# Altium schematic symbol library FF_component_lib.SchLib: 148 symbols (part 2 of 2)
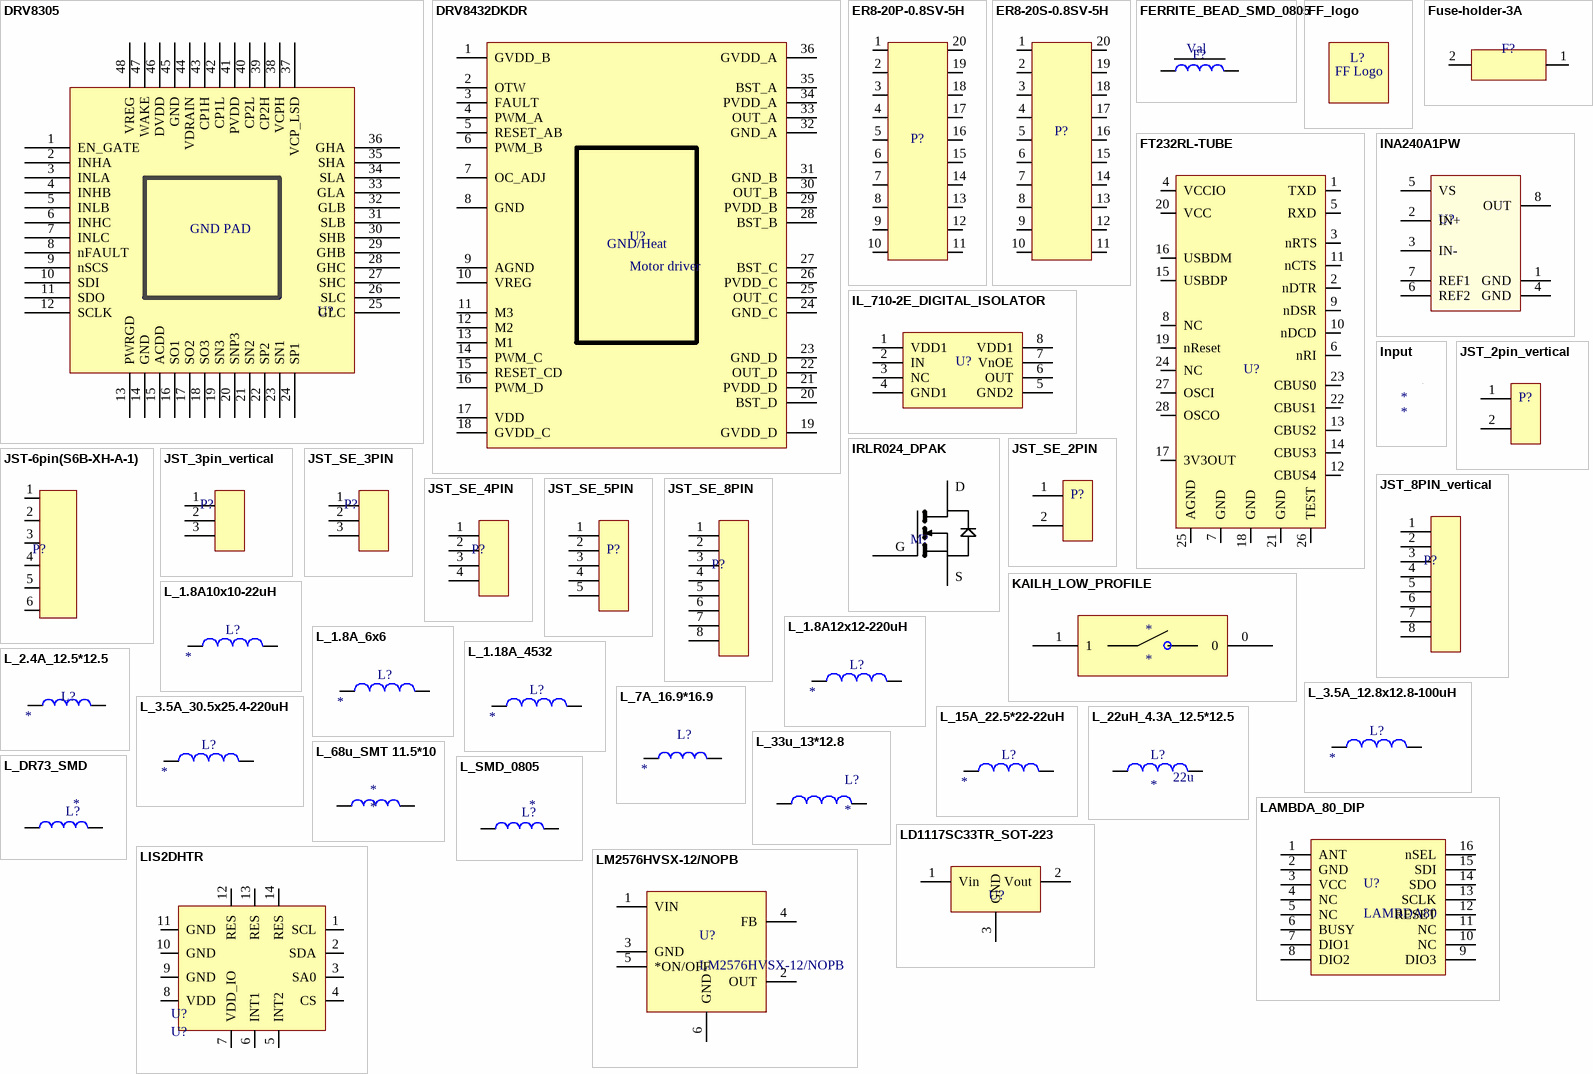
[diagram p5: symbols DRV8305 to LM2576HVSX-12/NOPB]

## LM2576HVSX-12/NOPB
designator U?
Conv DC-DC Single Inv/Step Down 4V to 60V 6-Pin(5+Tab) TO-263 T/R; Manufacturer 1: TI National Semiconductor; Efficiency: 88%; Number of Outputs: 1; Output Voltage: 12V; Max Output Current: 3A; Switching Frequency: 58kHz; Nominal Supply Current: 5mA; Min Supply Voltage: 7V; Synchronous Rectifier: No; Output Type: Fixed; Supplier 1: Digi-Key; Supplier Part Number 1: 296-35394-1-ND; Manufacturer Part Number 1: LM2576HVSX-12/NOPB; Stock 1: 1790; Pricing 1: 1=6,28000, 10=5,63800, 25=5,33040, 100=4,38270, 250=3,93256 (USD); RoHS: Yes; Mount: Surface Mount; Case/Package: TO-263; Min Operating Temperature: -40°C; Max Operating Temperature: 125°C; Packaging: Tape and Reel; Min Input Voltage: 4V; Max Input Voltage: 60V; Output Current: 3A; Package Quantity: 500; Quiescent Current: 5mA; Operating Supply Voltage: 60V; Radiation Hardening: No; Lead Free: Contains Lead; ComponentLink1URL: https://datasheet.ciiva.com/15112/getdatasheetpartid-55582-15112654.pdf?src-supplier=Verical; ComponentLink1Description: https://datasheet.ciiva.com/15112/getdatasheetpartid-55582-15112654.pdf?src-supplier=Verical; ComponentLink2URL: https://datasheet.ciiva.com/41457/001013732-da-01-en-ic-reg-b-lm2576hvsx-12-nopb-to-263-5-tid-41457603.pdf?src-supplier=Conrad; ComponentLink2Description: https://datasheet.ciiva.com/41457/001013732-da-01-en-ic-reg-b-lm2576hvsx-12-nopb-to-263-5-tid-41457603.pdf?src-supplier=Conrad; ComponentLink3URL: https://datasheet.ciiva.com/6607/lm2576hv-6607077.pdf?src-supplier=Digi-Key; ComponentLink3Description: https://datasheet.ciiva.com/6607/lm2576hv-6607077.pdf?src-supplier=Digi-Key; ComponentLink4URL: https://datasheet.ciiva.com/6607/lm2576hv-6607079.pdf?src-supplier=Digi-Key; ComponentLink4Description: https://datasheet.ciiva.com/6607/lm2576hv-6607079.pdf?src-supplier=Digi-Key; Category: Integrated Circuits (ICs)
footprint LM2576HVSX-12/NOPB
pins: 1 VIN, 2 OUT, 3 GND, 4 FB, 5 *ON/OFF, 6 GND

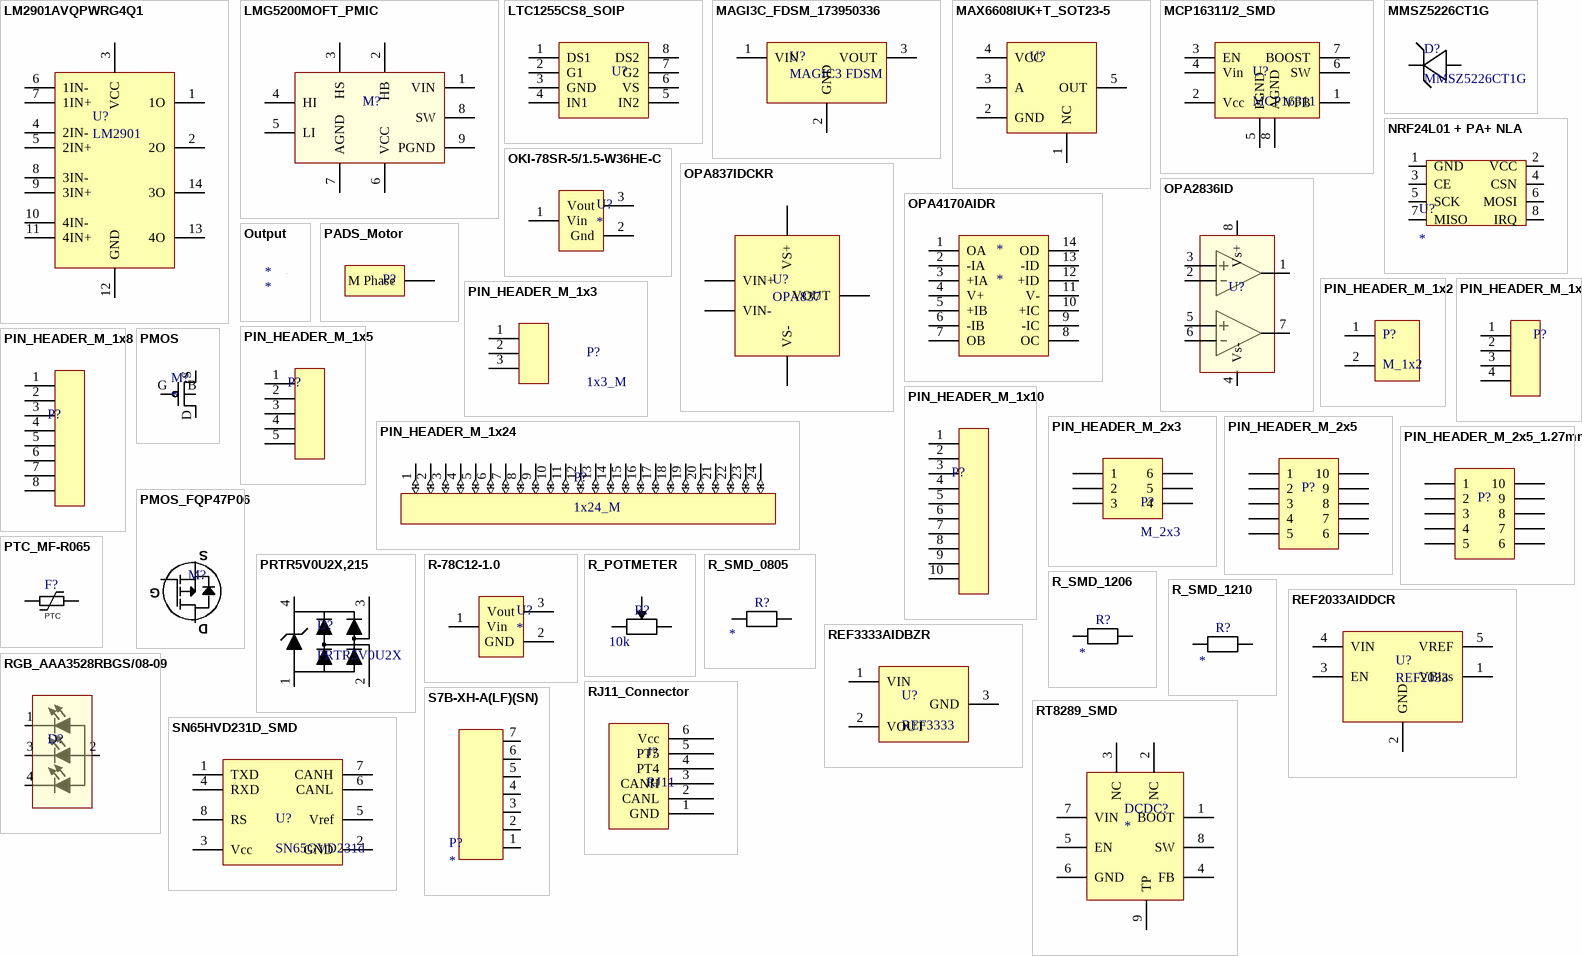
[diagram p3: symbols LM2901AVQPWRG4Q1 to SN65HVD231D_SMD]

## LM2901AVQPWRG4Q1
designator U?, comment LM2901
Supplier Link 1: https://www.digikey.com/product-detail/en/texas-instruments/LM2901AVQPWRG4Q1/296-23883-1-ND/1966623; Supplier Part Number 1: 296-23883-1-ND
footprint LM2901_14-TSSOP
pins: 1 1O, 2 2O, 3 VCC, 4 2IN-, 5 2IN+, 6 1IN-, 7 1IN+, 8 3IN-, 9 3IN+, 10 4IN-, 11 4IN+, 12 GND, 13 4O, 14 3O

## LMG5200MOFT_PMIC
designator M?  (value not drawn)
Supplier Part Number 1: 296-45474-1-ND; Supplier Link 1: https://www.digikey.com/product-detail/en/texas-instruments/LMG5200MOFT/296-45474-1-ND/6820978
footprint LMG5200MOFT
pins: 1 VIN, 2 HB, 3 HS, 4 HI, 5 LI, 6 VCC, 7 AGND, 8 SW, 9 PGND

## LTC1255CS8_SOIP
designator U?  (value not drawn)
IC GATE DRIVER HIGH SIDE 8SOIC; Supplier Link 1: https://www.digikey.com/product-detail/en/linear-technology-analog-devices/LTC1255CS8-TRPBF/LTC1255CS8-TRPBFCT-ND/8826860; Supplier Part Number 1: LTC1255CS8#TRPBFCT-ND
footprint LTC1255CS8_8SOIP (8-SOIP)
pins: 1 DS1, 2 G1, 3 GND, 4 IN1, 5 IN2, 6 VS, 7 G2, 8 DS2

## MAGI3C_FDSM_173950336
designator U?, comment MAGIC3 FDSM
3.3V step down, 4.75-36V input; Supplier Link 1: https://www.we-online.com/catalog/en/MAGIC_FDSM_FIXED_OUTPUT_VOLTAGE/; Supplier Part Number 1: 1739050336
footprint MAGI3C_FDSM
pins: 1 VIN, 2 GND, 3 VOUT

## MAX6608IUK+T_SOT23-5
designator U?  (value not drawn)
Supplier Link 1: https://www.digikey.com/product-detail/en/maxim-integrated/MAX6608IUK-T/MAX6608IUK-CT-ND/5405845; Supplier Part Number 1: MAX6608IUK+CT-ND
footprint MAX6608IUK+T_SOT23-5
pins: 1 NC, 2 GND, 3 A, 4 VCC, 5 OUT

## MCP16311/2_SMD
designator U?, comment MCP16311
Supplier Link 1: https://www.digikey.com/product-detail/en/microchip-technology/MCP16311T-E-MS/MCP16311T-E-MSCT-ND/7065569; Supplier Part Number 1: MCP16311T-E/MSCT-ND
footprint MCP16311/2_MSOP
pins: 1 VFB, 2 Vcc, 3 EN, 4 Vin, 5 PGND, 6 SW, 7 BOOST, 8 AGND

## MMSZ5226CT1G
designator D?
Diode Zener Single 3.3V 5% 500mW 2-Pin SOD-123 T/R; Manufacturer 1: ON Semiconductor; Tolerance: 2%; Impedance: 28R; Max Reverse Leakage Current: 25uA; Zener Current: 20mA; Supplier 1: Digi-Key; Manufacturer Part Number 1: MMSZ5226CT1G; Stock 1: 15207; Pricing 1: 1=0.21000, 10=0.19000, 25=0.18120, 100=0.07980, 500=0.06264, 1000=0.04350 (USD); RoHS: Yes; Case/Package: SOD-123-2; Number of Pins: 2; Min Operating Temperature: -55°C; Max Operating Temperature: 150°C; Max Power Dissipation: 500mW; Package Quantity: 3000; Packaging: Tape and Reel; Zener Voltage: 3.3V; Voltage Tolerance: 2%; Power Dissipation: 500mW; Element Configuration: Single; Radiation Hardening: No; Lead Free: Lead Free; ComponentLink1URL: https://datasheet.ciiva.com/13080/mmsz5221bt1-d-13080809.pdf?src-supplier=Mouser; ComponentLink1Description: https://datasheet.ciiva.com/13080/mmsz5221bt1-d-13080809.pdf?src-supplier=Mouser; Supplier Part Number 1: MMSZ5226CT1GOSCT-ND
footprint MMSZ5226CT1G
pins: A, K

## NRF24L01 + PA+ NLA
designator U?
footprint NRF24L01 + PA + NLA
pins: 1 GND, 2 VCC, 3 CE, 4 CSN, 5 SCK, 6 MOSI, 7 MISO, 8 IRQ

## OKI-78SR-5/1.5-W36HE-C
designator U?
12V-5V buck; Value: *; Supplier Link 1: https://www.digikey.com/product-detail/en/murata-power-solutions-inc/OKI-78SR-5-1.5-W36HE-C/811-3289-ND/6817694; Supplier Part Number 1: 811-3289-ND
footprint OKI-78SR-5/1.5-W36HE-C
pins: 1 Vin, 2 Gnd, 3 Vout

## OPA837IDCKR
designator U?, comment OPA837
Supplier Part Number 1: 296-50381-1-ND; Supplier Link 1: https://www.digikey.com/product-detail/en/texas-instruments/OPA837IDCKR/296-50381-1-ND/9685520
footprint SC70-5 (SC70-5pin)
pins: 1 VOUT, 2 VS-, 3 VIN+, 4 VIN-, 5 VS+

## OPA2836ID
designator U?  (value not drawn)
Operational Amplifier, 2 Amplifier, 118 MHz, 580 V/s, 2.5V to 5.5V, SOIC, 8 Pins; Manufacturer 1: Texas Instruments; -3db Bandwidth: 205MHz; Slew Rate: 560V/µs; Output Current per Channel: 50mA; Min Dual Supply Voltage: 1.25V; Max Dual Supply Voltage: 2.75V; Unity Gain Bandwidth Product: 118MHz; Common Mode Rejection Ratio: 94dB; Voltage Gain: 122dB; Number of Channels: 2; Max I/O Voltage: 400uV; Input Offset Voltage (Vos): 65uV; Input Bias Current: 1uA; Operating Supply Current: 1mA; Settling Time: 30ns; Max Frequency: 1MHz; Supplier 1: Digi-Key; Manufacturer Part Number 1: OPA2836ID; Stock 1: 450; Pricing 1: 1=4.20000, 10=3.77000, 25=3.56400, 100=2.93040, 250=2.62944, 500=2.53440, 1000=2.10672 (USD); RoHS: Yes; Case/Package: D; Number of Pins: 8; Contact Plating: Gold; Min Operating Temperature: -40°C; Max Operating Temperature: 125°C; Packaging: Rail/Tube; Package Quantity: 75; Max Supply Voltage: 5.5V; Min Supply Voltage: 2.5V; Gain Bandwidth Product: 118MHz; Number of Circuits: 2; Number of Elements: 2; Power Supply Rejection Ratio (PSRR): 94dB; Bandwidth: 118MHz; Number of Amplifiers: 2; Length: 5mm; Height: 1.5mm; Width: 4mm; Radiation Hardening: No; Lead Free: Lead Free; REACH SVHC: No SVHC; ComponentLink1URL: https://datasheet.ciiva.com/1799/opa2836-1799979.pdf?src-supplier=Digi-Key; ComponentLink1Description: https://datasheet.ciiva.com/1799/opa2836-1799979.pdf?src-supplier=Digi-Key; Supplier Part Number 1: 296-29793-5-ND
footprint opa2836
pins: 1 Out1, 2 In1-, 3 In1+, 4 Vs-, 5 In2+, 6 In2-, 7 Out2, 8 Vs+

## OPA4170AIDR
designator *
Supplier Link 1: https://www.digikey.com/product-detail/en/texas-instruments/OPA4170AIDR/296-29664-1-ND/2762167; Supplier Part Number 1: 296-29664-1-ND
footprint SOIC-14pin
pins: 1 OA, 2 -IA, 3 +IA, 4 V+, 5 +IB, 6 -IB, 7 OB, 8 OC, 9 -IC, 10 +IC, 11 V-, 12 +ID, 13 -ID, 14 OD

## Output
designator *
Value: *
pins: 6 (out)

## PADS_Motor
designator P?, comment M. Pad  (value not drawn)
Pads for 3 phase motor (its not a phase mom!!!)
footprint PADS_Motor
pins: 1 M Phase

## PIN_HEADER_M_1x2
designator P?, comment M_1x2
Supplier 1: *; Supplier Part Number 1: *
footprint PIN_HEADER_M_1x2
pins: 1, 2

## PIN_HEADER_M_1x3
designator P?, comment 1x3_M
Supplier 1: *; Supplier Part Number 1: *
footprint PIN_HEADER_M_1x3
pins: 1, 2, 3

## PIN_HEADER_M_1x4
designator P?, comment 1x4_M  (value not drawn)
Supplier 1: *; Supplier Part Number 1: *
footprint PIN_HEADER_M_1x4
pins: 1, 2, 3, 4

## PIN_HEADER_M_1x5
designator P?, comment 1x5_M  (value not drawn)
Supplier Part Number 1: *; Supplier 1: *
footprint PIN_HEADER_M_1x5
pins: 1, 2, 3, 4, 5

## PIN_HEADER_M_1x8
designator P?, comment M_1x10  (value not drawn)
Supplier 1: *; Supplier Part Number 1: *; Category: Pin Header
footprint PIN_HEADER_M_1X8
pins: 1, 2, 3, 4, 5, 6, 7, 8

## PIN_HEADER_M_1x10
designator P?, comment M_1x10  (value not drawn)
Supplier 1: *; Supplier Part Number 1: *
footprint PIN_HEADER_M_1x10
pins: 1, 2, 3, 4, 5, 6, 7, 8, 9, 10

## PIN_HEADER_M_1x24
designator P?, comment 1x24_M
Supplier Part Number 1: *; Supplier 1: *
footprint PIN_HEADER_M_1x24
pins: 1 (io), 2 (io), 3 (io), 4 (io), 5 (io), 6 (io), 7 (io), 8 (io), 9 (io), 10 (io), 11 (io), 12 (io), 13 (io), 14 (io), 15 (io), 16 (io), 17 (io), 18 (io), 19 (io), 20 (io), 21 (io), 22 (io), 23 (io), 24 (io)

## PIN_HEADER_M_2x3
designator P?, comment M_2x3
Supplier 1: *; Supplier Part Number 1: *
footprint PIN_HEADER_M_2x3
pins: 1, 2, 3, 4, 5, 6

## PIN_HEADER_M_2x5
designator P?, comment M_2x5  (value not drawn)
Supplier 1: *; Supplier Part Number 1: *
footprint PIN_HEADER_M_2x5
pins: 1, 2, 3, 4, 5, 6, 7, 8, 9, 10

## PIN_HEADER_M_2x5_1.27mm
designator P?, comment M_2x5  (value not drawn)
Supplier 1: *; Supplier Part Number 1: *
footprint PIN_HEADER_M 2x5 1.27mm
pins: 1, 2, 3, 4, 5, 6, 7, 8, 9, 10

## PMOS
designator M?
pins: B S, D 2, G 0, S 1

## PMOS_FQP47P06
designator M?, comment FQP47P06  (value not drawn)
MOSFET P-CH 60V 47A TO-220; Manufacturer 1: ON Semiconductor / Fairchild; Fall Time: 195ns; Drain to Source Resistance: 26mR; Power Dissipation: 160W; Turn-Off Delay Time: 100ns; Turn-On Delay Time: 50ns; Threshold Voltage: -4V; Rise Time: 450ns; Input Capacitance: 3.6nF; Number of Elements: 1; Element Configuration: Single; Drain to Source Breakdown Voltage: -60V; Gate to Source Voltage (Vgs): 25V; Current Rating: -47A; Supplier 1: Digi-Key; Manufacturer Part Number 1: FQP47P06; Stock 1: 1452; Pricing 1: 1=2.39000, 10=2.14600, 25=2.02440, 100=1.57890, 500=1.33600, 1000=1.13358, 2500=1.11739, 5000=1.09310 (USD); RoHS: Yes; Mount: Through Hole; Case/Package: TO-220AB; Number of Pins: 3; Weight: 1.8g; Min Operating Temperature: -55°C; Max Operating Temperature: 175°C; Continuous Drain Current (ID): 47A; Drain to Source Voltage (Vdss): 60V; Packaging: Rail/Tube; Max Power Dissipation: 160W; Nominal Vgs: -4V; Package Quantity: 50; Rds On Max: 26mR; On-State Resistance: 26mR; Voltage Rating (DC): -60V; Length: 10.1mm; Height: 9.4mm; Width: 4.7mm; Radiation Hardening: No; REACH SVHC: No SVHC; Lead Free: Lead Free; ComponentLink1URL: https://datasheet.ciiva.com/4442/fqp47p06-111828-4442634.pdf?src-supplier=Mouser; ComponentLink1Description: https://datasheet.ciiva.com/4442/fqp47p06-111828-4442634.pdf?src-supplier=Mouser; ComponentLink2URL: https://datasheet.ciiva.com/15137/getdatasheetpartid-70137-15137339.pdf?src-supplier=Verical; ComponentLink2Description: https://datasheet.ciiva.com/15137/getdatasheetpartid-70137-15137339.pdf?src-supplier=Verical; ComponentLink3URL: https://datasheet.ciiva.com/27051/929071-27051015.pdf?src-supplier=Jameco; ComponentLink3Description: https://datasheet.ciiva.com/27051/929071-27051015.pdf?src-supplier=Jameco; ComponentLink4URL: https://datasheet.ciiva.com/22681/1725683-22681909.pdf?src-supplier=Element14; ComponentLink4Description: https://datasheet.ciiva.com/22681/1725683-22681909.pdf?src-supplier=Element14; ComponentLink5URL: https://datasheet.ciiva.com/48715/001264209-da-01-en-mosfet-p-ch-60v-47-fqp47p06-to-220-3-fsc-48715589.pdf?src-supplier=Conrad; ComponentLink5Description: https://datasheet.ciiva.com/48715/001264209-da-01-en-mosfet-p-ch-60v-47-fqp47p06-to-220-3-fsc-48715589.pdf?src-supplier=Conrad; Supplier Part Number 1: FQP47P06-ND
footprint PMOS_FQP47P06
pins: 1 G, 2 D, 3 S

## PRTR5V0U2X,215
designator D?, comment PRTR5V0U2X
ESD Suppressor Diode Array Uni-Dir 5.5V Automotive 4-Pin SOT-143B T/R; Manufacturer 1: Nexperia; Manufacturer Part Number 1: PRTR5V0U2X,215; Supplier 1: Digi-Key; Stock 1: 125270; Pricing 1: 1=0.51000, 10=0.40500, 25=0.34760, 100=0.31850, 500=0.22002, 1000=0.16791 (USD); RoHS: No; ComponentLink1URL: http://www.farnell.com/datasheets/109718.pdf?src-supplier=Farnell; ComponentLink1Description: http://www.farnell.com/datasheets/109718.pdf?src-supplier=Farnell; ComponentLink2URL: http://www.farnell.com/datasheets/109718.pdf?src-supplier=Newark; ComponentLink2Description: http://www.farnell.com/datasheets/109718.pdf?src-supplier=Newark; ComponentLink3URL: https://assets.nexperia.com/documents/data-sheet/PRTR5V0U2X.pdf?src-supplier=Digi-Key; ComponentLink3Description: https://assets.nexperia.com/documents/data-sheet/PRTR5V0U2X.pdf?src-supplier=Digi-Key; Supplier Part Number 1: 1727-3884-1-ND
footprint PRTR5V0U2X
pins: 1, 2, 3, 4

## PTC_MF-R065
designator F?, comment MF-R065  (value not drawn)
FUSE PTC RESETTABLE .65A HOLD; Manufacturer 1: Bourns; Body Material: Polymer; Trip Current: 1.3A; Time to Trip: 5.3s; Power Dissipation: 900mW; Max Current Rating: 40A; Operating Supply Voltage: 60V; Resistance: 480mR; Hold Current: 650mA; Lead Diameter: 0.51mm; Lead Length: 7.6mm; Approvals: UL,CSA,TUV; Supplier 1: Digi-Key; Manufacturer Part Number 1: MF-R065; Stock 1: 6343; Pricing 1: 1=0.35000, 5=0.34200, 10=0.33200, 50=0.27920, 100=0.23180, 250=0.21076, 500=0.17912, 1000=0.15806, 5000=0.14225 (USD); RoHS: Yes; Mount: Through Hole,PCB; Case/Package: Radial; Number of Terminals: 2; Contact Plating: Tin; Min Operating Temperature: -40°C; Max Operating Temperature: 85°C; Termination: Radial; Packaging: Bulk; Package Quantity: 500; Current Rating: 40A; Voltage Rating: 60V; Voltage Rating (DC): 60V; Diameter: 9.7mm; Height: 15.2mm; Lead Pitch: 5.1mm; Terminal Pitch: 5.1mm; Wire/Cable Diameter: 0.51mm; Radiation Hardening: No; REACH SVHC: No SVHC; Flammability Rating: UL94 V-0; Lead Free: Lead Free; ComponentLink1URL: https://datasheet.ciiva.com/29121/551252-da-01-en-multifuse-sicherung-mf-r-29121073.pdf?src-supplier=Conrad; ComponentLink1Description: https://datasheet.ciiva.com/29121/551252-da-01-en-multifuse-sicherung-mf-r-29121073.pdf?src-supplier=Conrad; ComponentLink2URL: https://datasheet.ciiva.com/4502/mfr-72330-4502952.pdf?src-supplier=Mouser; ComponentLink2Description: https://datasheet.ciiva.com/4502/mfr-72330-4502952.pdf?src-supplier=Mouser; ComponentLink3URL: https://datasheet.ciiva.com/30194/1551mfr-30194824.pdf?src-supplier=Onlinecomponents.com; ComponentLink3Description: https://datasheet.ciiva.com/30194/1551mfr-30194824.pdf?src-supplier=Onlinecomponents.com; ComponentLink4URL: https://datasheet.ciiva.com/326/mfr-326634.pdf?src-supplier=Digi-Key; ComponentLink4Description: https://datasheet.ciiva.com/326/mfr-326634.pdf?src-supplier=Digi-Key; ComponentLink5URL: https://datasheet.ciiva.com/14538/70153580-14538702.pdf?src-supplier=Allied+Electronics; ComponentLink5Description: https://datasheet.ciiva.com/14538/70153580-14538702.pdf?src-supplier=Allied+Electronics; ComponentLink6URL: https://datasheet.ciiva.com/3019/mfr-3019649.pdf?src-supplier=Avnet; ComponentLink6Description: https://datasheet.ciiva.com/3019/mfr-3019649.pdf?src-supplier=Avnet; ComponentLink7URL: https://datasheet.ciiva.com/1274/1864503-1274632.pdf?src-supplier=Element14; ComponentLink7Description: https://datasheet.ciiva.com/1274/1864503-1274632.pdf?src-supplier=Element14; ComponentLink8URL: https://datasheet.ciiva.com/17401/mfr-17401752.pdf?src-supplier=Avnet+Europe; ComponentLink8Description: https://datasheet.ciiva.com/17401/mfr-17401752.pdf?src-supplier=Avnet+Europe; ComponentLink9URL: https://datasheet.ciiva.com/1274/6455-1274633.pdf?src-supplier=Element14; ComponentLink9Description: https://datasheet.ciiva.com/1274/6455-1274633.pdf?src-supplier=Element14; Supplier Part Number 1: MF-R065-ND
footprint ptc
pins: 1, 2
text: PTC

## R-78C12-1.0
designator U?
Wide input - 12V out buck; Supplier Link 1: https://www.digikey.com/products/en?keywords=R-78C12-1.0; Supplier Part Number 1: 945-1392-5-ND
footprint R-78C12-1.0
pins: 1 Vin, 2 GND, 3 Vout

## R_POTMETER
designator R?  value 10k
10k 25 turn potmeter; Supplier 1: https://www.digikey.com/product-detail/en/bourns-inc/PV36W103C01B00/490-2875-ND/666502; Supplier Part Number 1: 490-2875-ND
footprint R_POTMETER
pins: 1, 2, 3

## R_SMD_0805
designator R?, comment SMD  (value not drawn)
Supplier 1: *; Supplier Part Number 1: *; Value: *
footprint R_SMD_0805_pcb
pins: 1, 2

## R_SMD_1206
designator R?
Supplier Link 1: *; Supplier Part Number 1: *; Value: *
footprint R_SMD_1206
pins: 1, 2

## R_SMD_1210
designator R?
Supplier Link 1: *; Value: *
footprint R_SMD_1210
pins: 1, 2

## REF2033AIDDCR
designator U?, comment REF2033
Voltage ref chip. SOT-23-5; Supplier Link 1: https://www.digikey.com/product-detail/en/texas-instruments/REF2033AIDDCR/296-46177-1-ND/7033352; Supplier Part Number 1: 296-46177-1-ND
footprint SOT-23-5 (0.95 pitch)
pins: 1 VBias, 2 GND, 3 EN, 4 VIN, 5 VREF

## REF3333AIDBZR
designator U?, comment REF3333
Supplier Part Number 1: 296-22645-1-ND; Supplier Link 1: https://www.digikey.com/product-detail/en/texas-instruments/REF3333AIDBZR/296-22645-1-ND/1681907
footprint REF3333AIDBZR
pins: 1 VIN, 2 VOUT, 3 GND

## RGB_AAA3528RBGS/08-09
designator D?, comment RGB led  (value not drawn)
Manufacturer 1: Kingbright; Manufacturer Part Number 1: AAA3528RBGS/08-09; Supplier 1: Digi-Key; Stock 1: 2950; Pricing 1: 1=1.35000, 10=1.09900, 100=0.67600, 500=0.57460, 1000=0.47320 (USD); Supplier Part Number 1: 754-AAA3528RBGS/08-09CT-ND
footprint RGB_LED
pins: 1 R, 2, 3 B, 4 G

## RJ11_Connector
designator J?, comment RJ11
Supplier Part Number 1: AE10383-ND; Supplier Link 1: https://www.digikey.no/product-detail/en/assmann-wsw-components/A-2004-1-4-LP-N-R/AE10383-ND/2183634
footprint RJ11_Connector
pins: 1 GND, 2 CANL, 3 CANH, 4 PT4, 5 PT5, 6 Vcc

## RT8289_SMD
designator DCDC?
DC to DC Vin 32Vmax Vout 26Vmax; ComponentLink1Description: Datasheet; ComponentLink1URL: https://www.richtek.com/assets/product_file/RT8289/DS8289-02.pdf; Supplier Part Number 1: 1028-1046-1-ND; Supplier Link 1: https://www.digikey.no/product-detail/en/richtek-usa-inc/RT8289GSP/1028-1046-1-ND/3072324
footprint RT8289
pins: 1 BOOT, 2 NC, 3 NC, 4 FB, 5 EN, 6 GND, 7 VIN, 8 SW, 9 TP

## S7B-XH-A(LF)(SN)
designator P?
CONN HEADER XH SIDE 7POS 2.5MM
footprint S7B-XH-A(LF)(SN)
pins: 1, 2, 3, 4, 5, 6, 7

## SN65HVD231D_SMD
designator U?, comment SN65GVD231d
Supplier Link 1: https://www.digikey.no/product-detail/en/texas-instruments/SN65HVD231D/296-12206-5-ND/413493; Supplier Part Number 1: 296-12206-5-ND
footprint SN65HVD231D_SMD
pins: 1 TXD, 2 GND, 3 Vcc, 4 RXD, 5 Vref, 6 CANL, 7 CANH, 8 RS

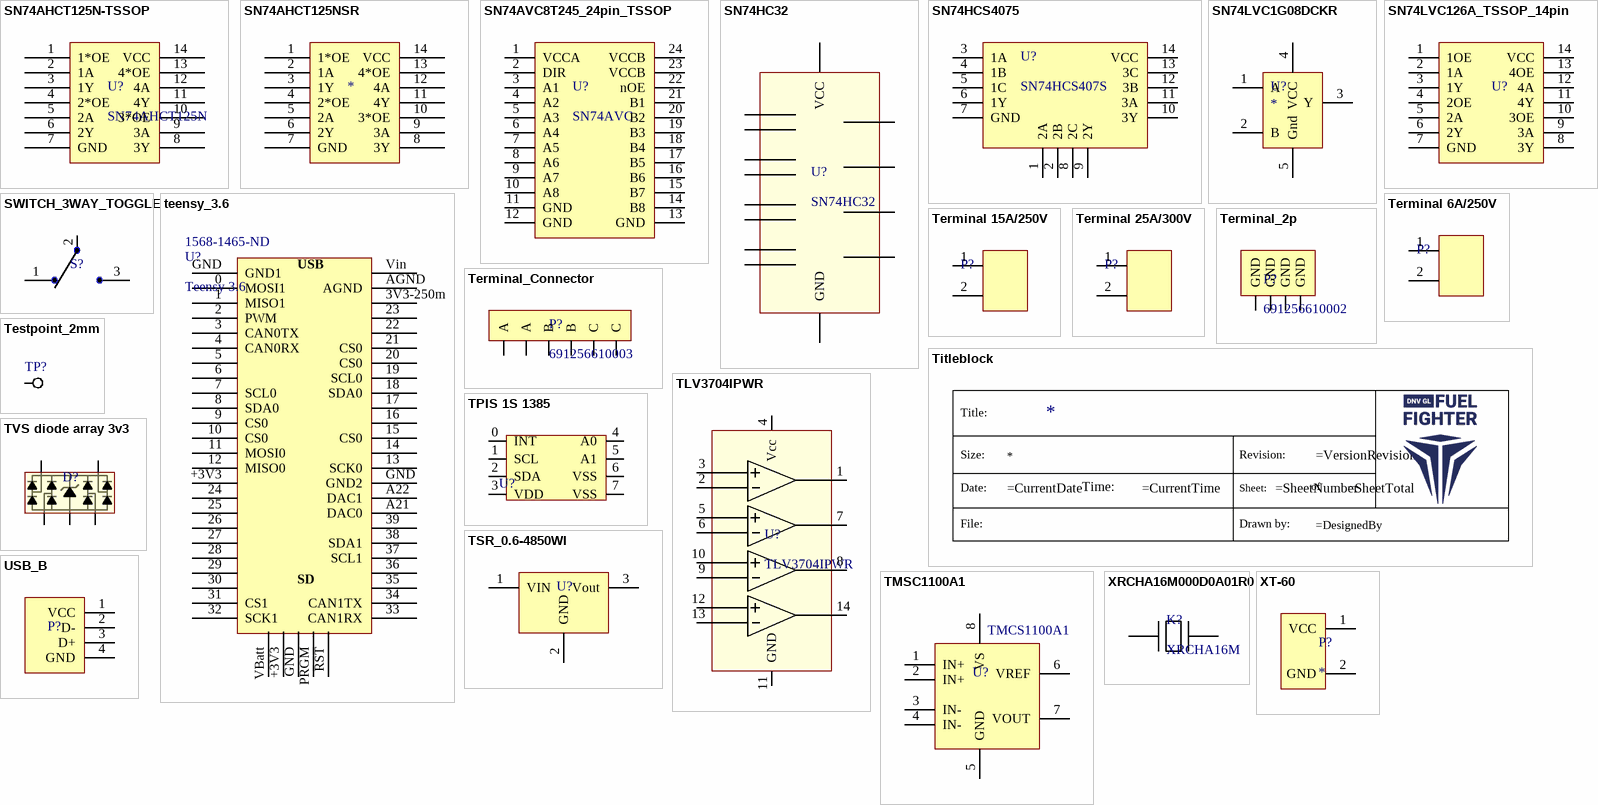
[diagram p4: symbols SN74AHCT125N-TSSOP to XT-60]

## SN74AHCT125N-TSSOP
designator U?, comment SN74AHCT125N
IC BUS BUFFER TRI-ST QD 14DIP; Manufacturer 1: Texas Instruments; Number of Channels: 4; Operating Supply Voltage: 5V; Propagation Delay: 7.5ns; Max Supply Voltage: 5.5V; Min Supply Voltage: 4.5V; Logic Function: Buffer,Inverting; Number of Bits per Element: 1; High Level Output Current: -8mA; Low Level Output Current: 8mA; Polarity: Non-Inverting; Turn-On Delay Time: 10ns; Quiescent Current: 2uA; Supplier 1: Digi-Key; Supplier Part Number 1: 296-4655-5-ND; Manufacturer Part Number 1: SN74AHCT125N; Stock 1: 4817; Pricing 1: 1=0,40000, 10=0,34500, 25=0,32200, 100=0,25760, 250=0,23920, 500=0,20240, 1000=0,15640, 2500=0,14260, 5000=0,13340 (USD); RoHS: Yes; Mount: Through Hole; Case/Package: PDIP; Number of Pins: 14; Min Operating Temperature: -40°C; Max Operating Temperature: 125°C; Number of Inputs: 4; Number of Outputs: 4; Packaging: Rail/Tube; Package Quantity: 25; Number of Elements: 4; Number of Input Lines: 4; Number of Output Lines: 4; Termination: Through Hole; Number of Circuits: 4; Number of Bits: 4; Radiation Hardening: No; REACH SVHC: No SVHC; Lead Free: Lead Free; ComponentLink1URL: https://datasheet.ciiva.com/41456/001016253-da-01-en-ic-bus-bufer-qd-sn74ahct125n-pdip-14-tid-41456644.pdf?src-supplier=Conrad; ComponentLink1Description: https://datasheet.ciiva.com/41456/001016253-da-01-en-ic-bus-bufer-qd-sn74ahct125n-pdip-14-tid-41456644.pdf?src-supplier=Conrad; ComponentLink2URL: https://datasheet.ciiva.com/1837/sn74ahct125-1837924.pdf?src-supplier=Digi-Key; ComponentLink2Description: https://datasheet.ciiva.com/1837/sn74ahct125-1837924.pdf?src-supplier=Digi-Key; ComponentLink3URL: https://datasheet.ciiva.com/14318/sn74ahct125-14318487.pdf?src-supplier=Avnet; ComponentLink3Description: https://datasheet.ciiva.com/14318/sn74ahct125-14318487.pdf?src-supplier=Avnet; ComponentLink4URL: https://datasheet.ciiva.com/26247/sn74ahct125-26247919.pdf?src-supplier=Avnet+Europe; ComponentLink4Description: https://datasheet.ciiva.com/26247/sn74ahct125-26247919.pdf?src-supplier=Avnet+Europe; Category: Integrated Circuits (ICs)
footprint SN74AHCT125N-DIP14
pins: 1 1*OE, 2 1A, 3 1Y, 4 2*OE, 5 2A, 6 2Y, 7 GND, 8 3Y, 9 3A, 10 3*OE, 11 4Y, 12 4A, 13 4*OE, 14 VCC

## SN74AHCT125NSR
designator *  (value not drawn)
Supplier 1: Digi-Key; Supplier Part Number 1: 296-31745-1-ND
footprint SN74AHCT125NSR
pins: 1 1*OE, 2 1A, 3 1Y, 4 2*OE, 5 2A, 6 2Y, 7 GND, 8 3Y, 9 3A, 10 3*OE, 11 4Y, 12 4A, 13 4*OE, 14 VCC

## SN74AVC8T245_24pin_TSSOP
designator U?, comment SN74AVC
Supplier Link 1: https://www.digikey.no/product-detail/en/texas-instruments/SN74AVC8T245PWR/296-19100-1-ND/864331; Supplier Part Number 1: 296-19100-1-ND
footprint SN74AVC8T245_TSOP (TSOP, 24-Leads, Body 7,80x4,40mm, Pitch 0,65mm, IPC Medium Density)
pins: 1 VCCA, 2 DIR, 3 A1, 4 A2, 5 A3, 6 A4, 7 A5, 8 A6, 9 A7, 10 A8, 11 GND, 12 GND, 13 GND, 14 B8, 15 B7, 16 B6, 17 B5, 18 B4, 19 B3, 20 B2, 21 B1, 22 nOE, 23 VCCB, 24 VCCB

## SN74HC32
designator U?
4 OR-gate IC; Supplier Link 1: https://www.digikey.com/product-detail/en/texas-instruments/SN74HC32PWR/296-8302-1-ND/376656; Supplier Part Number 1: 296-8302-1-ND
footprint sn74hc32
pins: 1 1A, 2 1B, 3 1Y, 4 2A, 5 2B, 6 2Y, 7  GND, 8 3Y, 9 3A, 10 3B, 11 4Y, 12 4A, 13 4B, 14 VCC

## SN74HCS4075
designator U?, comment SN74HCS407S
Supplier Part Number 1: 296-SN74HCS4075QDRQ1CT-ND; Supplier Link 1: https://www.digikey.com/product-detail/en/texas-instruments/SN74HCS4075QDRQ1/296-SN74HCS4075QDRQ1CT-ND/10715770
footprint SOIC-14pin
pins: 1 2A, 2 2B, 3 1A, 4 1B, 5 1C, 6 1Y, 7 GND, 8 2C, 9 2Y, 10 3Y, 11 3A, 12 3B, 13 3C, 14 VCC

## SN74LVC1G08DCKR
designator U?
IC GATE AND 1CH 2-INP SC70-5; Manufacturer 1: Texas Instruments; Manufacturer Part Number 1: SN74LVC1G08DCKR; Min Supply Voltage: 1.65V; Max Supply Voltage: 5.5V; Propagation Delay: 4ns; Output Current: 32mA; Number of Inputs: 2; Number of Outputs: 1; Quiescent Current: 10uA; High Level Output Current: -32mA; Schmitt Trigger Input: No; Supplier 1: Digi-Key; Supplier Part Number 1: 296-11602-1-ND; Stock 1: 84956; Pricing 1: 1=0,30000, 10=0,24400, 25=0,20400, 100=0,12920, 250=0,09972, 500=0,08498, 1000=0,05778 (USD); RoHS: Yes; Mount: Surface Mount; Case/Package: SC; Number of Pins: 5; Weight: 8.8E-05oz; Contact Plating: Gold; Min Operating Temperature: -40°C; Max Operating Temperature: 125°C; Logic Function: AND; Packaging: Tape and Reel; Package Quantity: 1; Max Output Current: 32mA; Number of Gates: 1; Number of Input Lines: 2; Number of Output Lines: 1; Low Level Output Current: 32mA; Number of Circuits: 1; Number of Elements: 1; Turn-On Delay Time: 4ns; Termination: SMD/SMT; Number of Bits: 1; Length: 2.15mm; Height: 1mm; Width: 1.4mm; Radiation Hardening: No; REACH SVHC: No SVHC; Lead Free: Lead Free; ComponentLink1URL: https://datasheet.ciiva.com/14290/sn74lvc1g08-14290720.pdf?src-supplier=Avnet; ComponentLink1Description: https://datasheet.ciiva.com/14290/sn74lvc1g08-14290720.pdf?src-supplier=Avnet; ComponentLink2URL: https://datasheet.ciiva.com/14290/sn74lvc1g08-14290717.pdf?src-supplier=Avnet; ComponentLink2Description: https://datasheet.ciiva.com/14290/sn74lvc1g08-14290717.pdf?src-supplier=Avnet; ComponentLink3URL: https://datasheet.ciiva.com/1864/sn74lvc1g08-1864341.pdf?src-supplier=Digi-Key; ComponentLink3Description: https://datasheet.ciiva.com/1864/sn74lvc1g08-1864341.pdf?src-supplier=Digi-Key; ComponentLink4URL: https://datasheet.ciiva.com/1864/sn74lvc1g08-1864342.pdf?src-supplier=Digi-Key; ComponentLink4Description: https://datasheet.ciiva.com/1864/sn74lvc1g08-1864342.pdf?src-supplier=Digi-Key; ComponentLink5URL: https://datasheet.ciiva.com/1864/sn74lvc1g08-1864343.pdf?src-supplier=Digi-Key; ComponentLink5Description: https://datasheet.ciiva.com/1864/sn74lvc1g08-1864343.pdf?src-supplier=Digi-Key; ComponentLink6URL: https://datasheet.ciiva.com/26048/sn74lvc1g08-26048426.pdf?src-supplier=Avnet+Europe; ComponentLink6Description: https://datasheet.ciiva.com/26048/sn74lvc1g08-26048426.pdf?src-supplier=Avnet+Europe; ComponentLink7URL: https://datasheet.ciiva.com/16503/sn74lvc1g08-16503404.pdf?src-supplier=Avnet+Asia; ComponentLink7Description: https://datasheet.ciiva.com/16503/sn74lvc1g08-16503404.pdf?src-supplier=Avnet+Asia; ComponentLink8URL: https://datasheet.ciiva.com/28540/1772545-28540798.pdf?src-supplier=Element14; ComponentLink8Description: https://datasheet.ciiva.com/28540/1772545-28540798.pdf?src-supplier=Element14
footprint SN74LVC1G08DCKR
pins: 1 A, 2 B, 3 Y, 4 VCC, 5 Gnd

## SN74LVC126A_TSSOP_14pin
designator U?  (value not drawn)
Quadruple Bus Buffergate with 3-state outputs; Supplier Part Number 1: 296-8458-1-ND; Supplier Link 1: https://www.digikey.com/product-detail/en/texas-instruments/SN74LVC126APWR/296-8458-1-ND/377421
footprint SN74LVC126APWR_TSSOP
pins: 1 1OE, 2 1A, 3 1Y, 4 2OE, 5 2A, 6 2Y, 7 GND, 8 3Y, 9 3A, 10 3OE, 11 4Y, 12 4A, 13 4OE, 14 VCC

## SWITCH_3WAY_TOGGLE
designator S?  (value not drawn)
Supplier Link 1: https://www.digikey.com/product-detail/en/nidec-copal-electronics/ATE1D-2M3-10-Z/563-1157-ND/1792018; Supplier Part Number 1: 563-1157-ND
footprint SWITCH_ATE (ATE1D-2M3-10-Z)
pins: 1, 2, 3   

## teensy_3.6
designator U?, comment Teensy 3.6  Supplier Part Number 3: 1568-1465-ND
TEENSY 3.6 (HEADERS); Evaluation Kit: Yes; Core Architecture: ARM; Supplier 2: Digi-Key; Stock 2: 6624; Pricing 2: 1=1,01000, 10=0,85600, 50=0,75000, 100=0,70700 (USD); ComponentLink1Description: ll; Supplier 3: Digi-Key; Stock 3: 1272; Pricing 3: 1=36,88000 (USD); ComponentLink2URL: https://media.digikey.com/pdf/Data%20Sheets/Sparkfun%20PDFs/DEV-14058_Web.pdf?src-supplier=Digi-Key; ComponentLink2Description: https://media.digikey.com/pdf/Data%20Sheets/Sparkfun%20PDFs/DEV-14058_Web.pdf?src-supplier=Digi-Key
footprint teensy_3.6
pins: 0 MOSI1, 1 MISO1, 2 PWM, 3 CAN0TX, 3V3-250m, 4 CAN0RX, 5, 6, 7 SCL0, 8 SDA0, 9 CS0, 10 CS0, 11 MOSI0, 12 MISO0, 13 SCK0, 14, 15 CS0, 16, 17, 18 SDA0, 19 SCL0, 20 CS0, 21 CS0, 22, 23, 24, 25, 26, 27, 28, 29, 30, 31 CS1, 32 SCK1, 33 CAN1RX, 34 CAN1TX, 35, 36, 37 SCL1, 38 SDA1, 39, +3V3, +3V3, A21 DAC0, A22 DAC1, AGND, GND GND1, GND GND2, GND, PRGM, RST, VBatt "Interior pins", Vin
text: USB; SD

## Terminal 6A/250V
designator P?  (value not drawn)
Value: *
footprint Terminal 6A/250V
pins: 1, 2

## Terminal 15A/250V
designator P?  (value not drawn)
Value: *
footprint Terminal 15A/250V
pins: 1, 2

## Terminal 25A/300V
designator P?  (value not drawn)
Value: *
footprint Terminal 25A/300V
pins: 1, 2

## Terminal_2p
designator P?, comment 691256610002
TERM BLK 2P SIDE ENT 10.16MM PCB; Manufacturer 1: Wurth Electronics; Plating: Copper Alloy; Number of Levels: 1; Number of Positions Per Level: 2; Current: 58A; Voltage: 300V; Wire Gauge (Max): 20AWG; Wire Gauge (Min): 6AWG; Supplier 1: Digi-Key; Manufacturer Part Number 1: 691256610002; Stock 1: 988; Pricing 1: 1=3.50000, 10=3.07000, 50=2.77000, 100=2.48000, 500=2.34000 (USD); RoHS: No; Mount: Through Hole; Color: Grey; Contact Plating: Steel; Housing Material: Nylon; Packaging: Bulk; Termination: Screw; ComponentLink1URL: https://katalog.we-online.de/em/datasheet/691256610002.pdf?src-supplier=Digi-Key; ComponentLink1Description: https://katalog.we-online.de/em/datasheet/691256610002.pdf?src-supplier=Digi-Key; Supplier Part Number 1: 732-11031-ND
footprint terminalblock2
pins: 1 GND, 2 GND, 3 GND, 4 GND

## Terminal_Connector
designator P?, comment 691256610003
TERM BLK 3P SIDE ENT 10.16MM PCB; Manufacturer 1: Wurth Electronics; Plating: Copper Alloy; Number of Levels: 1; Number of Positions Per Level: 3; Current: 58A; Voltage: 300V; Wire Gauge (Max): 20AWG; Wire Gauge (Min): 6AWG; Supplier 1: Digi-Key; Manufacturer Part Number 1: 691256610003; Stock 1: 133; Pricing 1: 1=6.34000, 10=5.54000, 50=5.02000, 100=4.49000, 500=4.22000 (USD); RoHS: No; Mount: Through Hole; Color: Grey; Contact Plating: Steel; Housing Material: Nylon; Packaging: Bulk; Termination: Screw; ComponentLink1URL: https://katalog.we-online.de/em/datasheet/691256610003.pdf?src-supplier=Digi-Key; ComponentLink1Description: https://katalog.we-online.de/em/datasheet/691256610003.pdf?src-supplier=Digi-Key; Supplier Part Number 1: 732-11032-ND
footprint wurth_terminal_connector
pins: 1 A, 2 B, 3 C, 4 C, 5 B, 6 A

## Testpoint_2mm
designator TP?  (value not drawn)
footprint Testpoint_2mm
pins: 1

## Titleblock
designator *  (graphical)
standard title block utkast til FF; schematicTitle: *; size: *
text: Title:; Size:; Revision:; Date:; Time:; Sheet:; of; File:; Drawn by:

## TLV3704IPWR
designator U?
IC QUAD COMP P-P NANOPWR 14TSSOP; Manufacturer 1: Texas Instruments; Input Offset Voltage (Vos): 5mV; Input Bias Current: 250pA; Output Current: 10mA; Quiescent Current: 1uA; Max Supply Current: 800nA; Number of Channels: 4; Power Supply Rejection Ratio (PSRR): 105dB; Response Time: 36us; Power Dissipation: 720mW; Min Dual Supply Voltage: 1.35V; Max Supply Voltage: 16V; Voltage Gain: 120dB; Min Supply Voltage: 2.7V; Max Dual Supply Voltage: 8V; Common Mode Rejection Ratio: 88dB; Supplier 1: Digi-Key; Manufacturer Part Number 1: TLV3704IPWR; Stock 1: 2153; Pricing 1: 1=2.80000, 10=2.51800, 25=2.38040, 100=1.95730, 250=1.75628, 500=1.69280, 1000=1.40714 (USD); RoHS: Yes; Mount: Surface Mount; Case/Package: TSSOP; Number of Pins: 14; Weight: 0.002018oz; Contact Plating: Gold; Min Operating Temperature: -40°C; Max Operating Temperature: 125°C; Max Input Current: 250pA; Packaging: Tape and Reel; Package Quantity: 2000; Nominal Supply Current: 800nA; Number of Elements: 4; Max Power Dissipation: 720mW; Type: General Purpose; Radiation Hardening: No; Lead Free: Lead Free; ComponentLink1URL: https://datasheet.ciiva.com/6623/tlv3701-6623965.pdf?src-supplier=Digi-Key; ComponentLink1Description: https://datasheet.ciiva.com/6623/tlv3701-6623965.pdf?src-supplier=Digi-Key; ComponentLink2URL: https://datasheet.ciiva.com/6623/tlv3701-6623966.pdf?src-supplier=Digi-Key; ComponentLink2Description: https://datasheet.ciiva.com/6623/tlv3701-6623966.pdf?src-supplier=Digi-Key; ComponentLink3URL: https://datasheet.ciiva.com/6623/tlv3701-6623967.pdf?src-supplier=Digi-Key; ComponentLink3Description: https://datasheet.ciiva.com/6623/tlv3701-6623967.pdf?src-supplier=Digi-Key; ComponentLink4URL: https://datasheet.ciiva.com/2971/tlv3702-2971238.pdf?src-supplier=Avnet; ComponentLink4Description: https://datasheet.ciiva.com/2971/tlv3702-2971238.pdf?src-supplier=Avnet; Supplier Part Number 1: 296-31973-1-ND
footprint TLV3704IPWR_TSSOP14
pins: 1 1OUT, 2 1IN-, 3 1IN+, 4 Vcc, 5 2IN+, 6 2IN-, 7 2OUT, 8 3OUT, 9 3IN-, 10 3IN+, 11 GND, 12 4IN+, 13 4IN-, 14 4OUT

## TMSC1100A1
designator U?  Part_name: TMCS1100A1  (hidden comment: *)
footprint SOIC-8 (SOIC, 8-Leads, Body 4,91x3,90mm, Pitch 1,27mm, IPC Medium Density)
pins: 1 IN+, 2 IN+, 3 IN-, 4 IN-, 5 GND, 6 VREF, 7 VOUT, 8 VS

## TPIS 1S 1385
designator U?, comment 1601-1012-1-ND  (value not drawn)
IR temp sensor i2c
footprint TPIS 1S 1385
pins: 0 INT, 1 SCL, 2 SDA, 3 VDD, 4 A0, 5 A1, 6 VSS, 7 VSS

## TSR_0.6-4850WI
designator U?  (value not drawn)
footprint TSR_0.6-4850WI
pins: 1 VIN, 2 GND, 3 Vout

## TVS diode array 3v3
designator D?, comment RCLAMP3354S.TCT  (value not drawn)
ESD Suppressors / TVS Diodes 3.3V 4 LINE LOW CAP; Manufacturer 1: Semtech; Peak Pulse Current: 25A; Number of Bidirectional Channels: 4; Min Breakdown Voltage: 3.5V; Clamping Voltage: 16V; Peak Pulse Power: 400W; Power Line Protection: Yes; Supplier 1: Digi-Key; Manufacturer Part Number 1: RCLAMP3354S.TCT; Stock 1: 15718; Pricing 1: 1=1.11000, 10=0.93500, 100=0.73100, 500=0.59500, 1000=0.45900 (USD); RoHS: Yes; Mount: Surface Mount; Case/Package: SOT-23-5; Min Operating Temperature: -55°C; Max Operating Temperature: 85°C; Packaging: Tape and Reel; Reverse Standoff Voltage: 3.3V; Lead Free: Lead Free; ComponentLink1URL: http://www.mouser.com/ds/2/761/down-768362.pdf?src-supplier=Mouser; ComponentLink1Description: http://www.mouser.com/ds/2/761/down-768362.pdf?src-supplier=Mouser; ComponentLink2URL: http://www.semtech.com/images/datasheet/rclamp3354s.pdf?src-supplier=Digi-Key; ComponentLink2Description: http://www.semtech.com/images/datasheet/rclamp3354s.pdf?src-supplier=Digi-Key; ComponentLink3URL: https://www.semtech.com/uploads/documents/rclamp3354s.pdf?src-supplier=Digi-Key; ComponentLink3Description: https://www.semtech.com/uploads/documents/rclamp3354s.pdf?src-supplier=Digi-Key; Supplier Part Number 1: RCLAMP3354STCTCT-ND
footprint tvs_array_sot23
pins: 1, 2, 3, 4, 5

## USB_B
designator P?  (value not drawn)
Supplier Part Number 1: ED2983-ND; Supplier Link 1: https://www.digikey.com/product-detail/en/on-shore-technology-inc/USB-B1HSB6/ED2983-ND/2677744
footprint USB_B
pins: 1 VCC, 2 D-, 3 D+, 4 GND

## XRCHA16M000D0A01R0
designator K?, comment XRCHA16M
16MHz Oscillator; Supplier Part Number 1: 490-9650-1-ND; Supplier Link 1: https://www.digikey.com/product-detail/en/murata-electronics/XRCHA16M000F0A01R0/490-9650-1-ND/4930054
footprint XRCHA_Oscillator
pins: 1 49, 2 50

## XT-60
designator P?
Supplier Part Number 1: 1568-1816-ND; Supplier Link 1: https://www.digikey.com/product-detail/en/sparkfun-electronics/PRT-10474/1568-1816-ND/8258064
footprint XT-60
pins: 1 VCC, 2 GND